# Altium integrated library 39281043.IntLib: 1 symbol
Pins are listed as number, name and electrical type; pins without a type are passive.

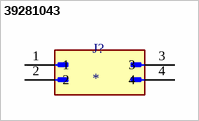
[diagram p0: symbol 39281043]

## 39281043
designator J?
Conn Wire to Board HDR 4Power POS 4.2mm Solder ST Top Entry Thru-Hole Mini-Fit Jr Bag; MP: 39281043; Package: None; Price: None; Value: *; Availability: Unavailable
footprint MOLEX_39281043
pins: 1, 2, 3, 4